# Altium footprint library STM32WB15CCY6TR.PcbLib: 1 footprints
Each footprint in its own frame and in the unit in brackets; x right, y up, seen from the top. Pads: shape width x height; smd on the part's side, far side on the other; paste and mask are expansions set on the pad; w line width, h text height; cw(c..) or ccw(c..) is an arc to the next point about the centre after c.
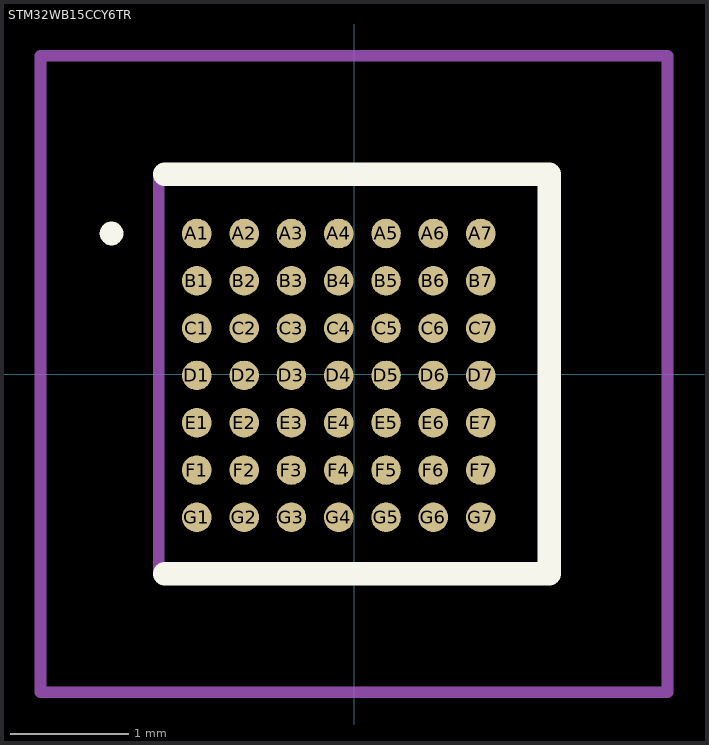
[diagram p0: the footprint, top view; thin cyan lines are the x and y axes]

## STM32WB15CCY6TR [mm]
pads (49):
  round 0.25 smd: A1(-1.329,1.188) A2(-0.929,1.188) A3(-0.529,1.188) A4(-0.129,1.188) A5(0.271,1.188) A6(0.671,1.188) A7(1.071,1.188) B1(-1.329,0.788) B2(-0.929,0.788) B3(-0.529,0.788) B4(-0.129,0.788) B5(0.271,0.788) B6(0.671,0.788) B7(1.071,0.788) C1(-1.329,0.388) C2(-0.929,0.388) C3(-0.529,0.388) C4(-0.129,0.388) C5(0.271,0.388) C6(0.671,0.388) C7(1.071,0.388) D1(-1.329,-0.012) D2(-0.929,-0.012) D3(-0.529,-0.012) D4(-0.129,-0.012) D5(0.271,-0.012) D6(0.671,-0.012) D7(1.071,-0.012) E1(-1.329,-0.412) E2(-0.929,-0.412) E3(-0.529,-0.412) E4(-0.129,-0.412) E5(0.271,-0.412) E6(0.671,-0.412) E7(1.071,-0.412) F1(-1.329,-0.812) F2(-0.929,-0.812) F3(-0.529,-0.812) F4(-0.129,-0.812) F5(0.271,-0.812) F6(0.671,-0.812) F7(1.071,-0.812) G1(-1.329,-1.212) G2(-0.929,-1.212) G3(-0.529,-1.212) G4(-0.129,-1.212) G5(0.271,-1.212) G6(0.671,-1.212) G7(1.071,-1.212)
Top Overlay:
  lines w0.1: -2.1,1.188 cw(c-2.05,1.188) -2,1.188 ; -2.1,1.188 -2.1,1.188 ; -2.1,1.188 ccw(c-2.05,1.188) -2,1.188 ; -2,1.188 -2,1.188
  lines w0.2: -1.6,-1.69 1.65,-1.69 1.65,1.69 -1.6,1.69
Mechanical 15:
  lines w0.1: -1.65,-1.69 -1.65,1.69 1.65,1.69 1.65,-1.69 -1.65,-1.69
Mechanical 20:
  lines w0.1: -2.65,-2.69 -2.65,2.69 2.65,2.69 2.65,-2.69 -2.65,-2.69
3D body "STM32WB15CCY6TR.stp": height 5.8, standoff -4.65, extent -10,-3.376 10,3.376